# EAGLE library part B8B-XH-A(LF)(SN) (library Headers)
CONN HEADER VERT 8POS 2.5MM Manufacturer's datasheet <http://www.jst-mfg.com/product/pdf/eng/eXH.pdf>
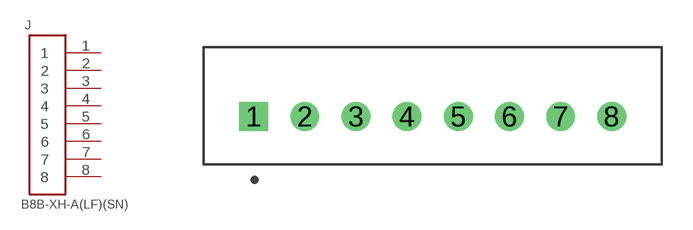
[diagram p26: symbol with the pads of B8B-XH-A(LF)(SN); footprint B8B-XH-A(LF)(SN)]

Designator prefix J

## B8B-XH-A(LF)(SN) (CREATED_BY: PCBLayout.com; DIGIKEY_PARTNO: 455-2251-ND; MANUFACTURER: JST Sales America Inc.; MPN: B8B-XH-A(LF)(SN))  [B8B-XH-A(LF)(SN)]
1  1  pas
2  2  pas
3  3  pas
4  4  pas
5  5  pas
6  6  pas
7  7  pas
8  8  pas

## Footprint B8B-XH-A(LF)(SN) (pad centres in mm)
drill 0.9 square: 1 -8.75,0
drill 0.9: 2 -6.25,0; 3 -3.75,0; 4 -1.25,0; 5 1.25,0; 6 3.75,0; 7 6.25,0; 8 8.75,0